# EAGLE library part FPC-CONNECTOR-6P-1.0 (library Connector)
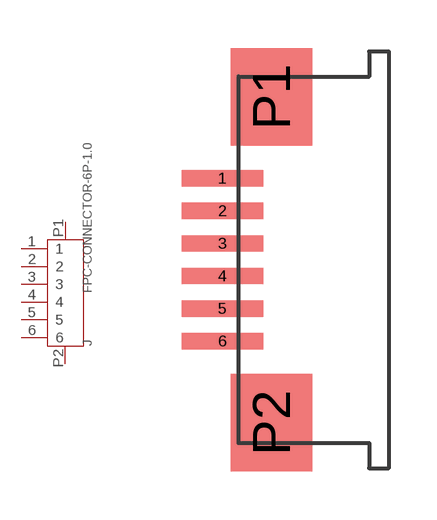
[diagram p42: symbol with the pads of 6P-1.0-90D; footprint 6P-1.0-90D]

Designator prefix J

## FPC-CONNECTOR-6P-1.0  [6P-1.0-90D]
1  1
2  2
3  3
4  4
5  5
6  6
P1  P1
P2  P2

## Footprint 6P-1.0-90D (pad centres in mm)
smd 2.54 x 0.508: 1 -2.54,2.54; 2 -2.54,1.524; 3 -2.54,0.508; 4 -2.54,-0.508; 5 -2.54,-1.524; 6 -2.54,-2.54
smd 2.54 x 3.048: P1 -1.016,5.08; P2 -1.016,-5.08